# Altium schematic symbol library TESEO-LIV3R.SchLib: 1 symbol
Pins are listed as number, name and electrical type; pins without a type are passive.

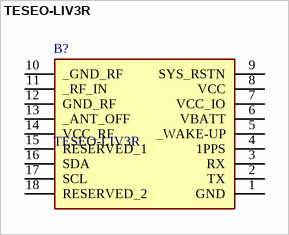
[diagram p0: symbol TESEO-LIV3R]

## TESEO-LIV3R
designator B?
- RF Receiver BeiDou, GLONASS, GNSS, GPS 1.561GHz, 1.575MHz -163dBm Not Included 18-LCC (9.7x10.1); Manufacturer_Name: STMicroelectronics; Geometry.Height: 2.3mm; Manufacturer_Part_Number: TESEO-LIV3R; Mouser Part Number: 511-TESEO-LIV3R; Mouser Price/Stock: https://www.mouser.co.uk/ProductDetail/STMicroelectronics/TESEO-LIV3R?qs=ZSypp649SOXG7EmhCFcBlw%3D%3D; Arrow Part Number: TESEO-LIV3R; Arrow Price/Stock: https://www.arrow.com/en/products/teseo-liv3r/stmicroelectronics?region=nac; Datasheet Link: https://www.st.com/resource/en/datasheet/teseo-liv3r.pdf
footprint TESEOLIV3R
pins: 1 GND, 2 TX, 3 RX, 4 1PPS, 5 _WAKE-UP, 6 VBATT, 7 VCC_IO, 8 VCC, 9 SYS_RSTN, 10 _GND_RF, 11 _RF_IN, 12 GND_RF, 13 _ANT_OFF, 14 VCC_RF, 15 RESERVED_1, 16 SDA, 17 SCL, 18 RESERVED_2